# EAGLE library part TINYFPGA_AX2BD (library StarLiteLib)
TinyFPGA AX2 Board
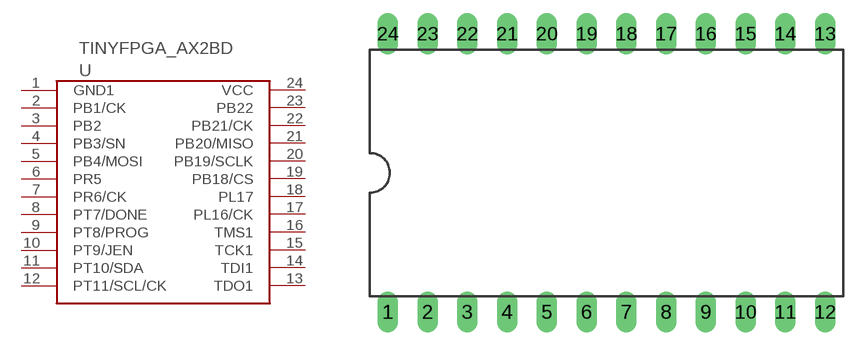
[diagram p1: symbol with the pads of DIL24-7; footprint DIL24-7]

Designator prefix -

## TINYFPGA_AX2BD  [DIL24-7]
1  GND1  pwr
2  PB1/CK
3  PB2
4  PB3/SN
5  PB4/MOSI
6  PR5
7  PR6/CK
8  PT7/DONE
9  PT8/PROG
10  PT9/JEN
11  PT10/SDA
12  PT11/SCL/CK
13  TDO1
14  TDI1
15  TCK1
16  TMS1
17  PL16/CK
18  PL17
19  PB18/CS
20  PB19/SCLK
21  PB20/MISO
22  PB21/CK
23  PB22
24  VCC  pwr

## Footprint DIL24-7 (pad centres in mm)
Dual In Line Package 0.7 inch
drill 0.813 long: 1 -13.97,-7.62; 2 -11.43,-7.62; 3 -8.89,-7.62; 4 -6.35,-7.62; 5 -3.81,-7.62; 6 -1.27,-7.62; 7 1.27,-7.62; 8 3.81,-7.62; 9 6.35,-7.62; 10 8.89,-7.62; 11 11.43,-7.62; 12 13.97,-7.62; 13 13.97,10.16; 14 11.43,10.16; 15 8.89,10.16; 16 6.35,10.16; 17 3.81,10.16; 18 1.27,10.16; 19 -1.27,10.16; 20 -3.81,10.16; 21 -6.35,10.16; 22 -8.89,10.16; 23 -11.43,10.16; 24 -13.97,10.16